# Altium footprint library libreriaPcb.PcbLib: 683 footprints (part 6 of 44)
Each footprint in its own frame and in the unit in brackets; x right, y up, seen from the top. Pads: shape width x height; smd on the part's side, far side on the other; paste and mask are expansions set on the pad; w line width, h text height; cw(c..) or ccw(c..) is an arc to the next point about the centre after c.
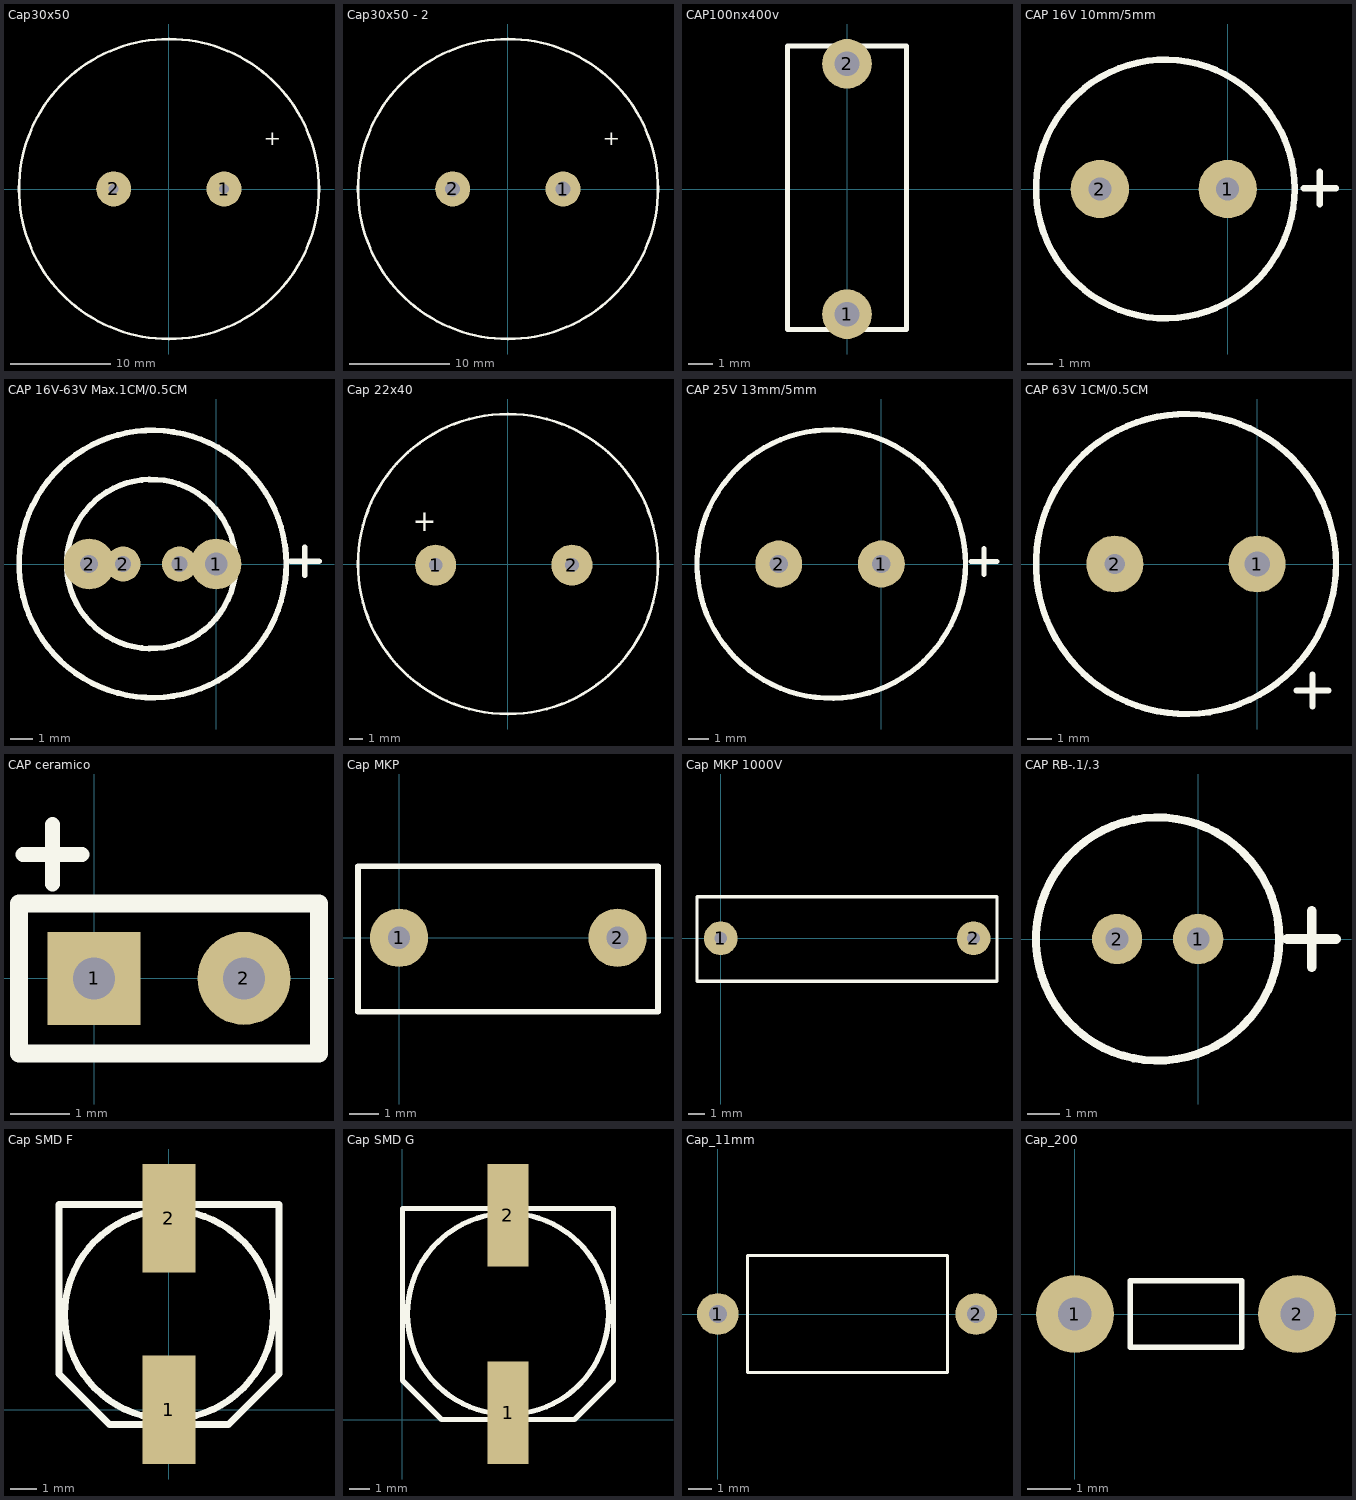
[diagram p5: the footprints below, top view; thin cyan lines are the x and y axes]

## Cap30x50 [mm]
pads (2):
  round 3.5 hole 1: 1(5.51,0) 2(-5.52,0.01)
Top Overlay:
  circle w0.254: c0.006,0 r15
  text "+" at 9.46,4.4 h1.52

## Cap30x50 - 2 [mm]
pads (2):
  round 3.5 hole 1.5: 1(5.51,0) 2(-5.52,0.01)
Top Overlay:
  circle w0.254: c0.006,0 r15
  text "+" at 9.46,4.4 h1.52
3D body: height 50, standoff 0, extent -14.994,-15 15.006,15
3D body: height 50, standoff 0.2, extent -15.113,-1.803 -14.681,1.473
3D body: height 51, standoff 50, extent -13.994,-13.945 14.006,14.047

## CAP100nx400v [mm]
pads (2):
  round 2 hole 1: 1(0,-5.05) 2(0,5.05)
Top Overlay:
  lines w0.2: -2.4,-5.665 -2.4,5.765 2.4,5.765 2.4,-5.665 -2.4,-5.665
3D body: height 1, standoff 0, extent -0.4,4.65 0.4,5.45
3D body: height 1, standoff 0, extent -0.4,-5.45 0.4,-4.65
3D body: height 10.5, standoff 0.5, extent -2.438,-6.152 2.388,6.152

## CAP 16V 10mm/5mm [mil] "B41856A4108M000"
pads (2):
  round 90 hole 35.43: 1(0,0) 2(-196.85,0)
Top Overlay:
  circle w10: c-96.16,0 r199.11
  lines w10: 116.75,1.06 166.75,1.06 ; 141.73,-23.62 141.73,26.38

## CAP 16V-63V Max.1CM/0.5CM [mil] "Dos medidas de Cap"
pads (4):
  round 62 hole 28: 1(-65,0) 2(-165,0)
  round 90 hole 40: 1(0,0)
  round 90 hole 32: 2(-225,0)
Top Overlay:
  circle w10: c-115,0 r150
  circle w10: c-112.5,0 r237
  lines w10: 132.5,5 182.5,5 ; 157.5,-20 157.5,30

## Cap 22x40 [mm]
pads (2):
  round 3 hole 1: 1(-5.283,-0.076) 2(4.717,-0.076)
Top Overlay:
  circle w0.2: c0.025,0 r11
  text "+" at -6.973,2.394 h1.52
3D body: height 40, standoff 0, extent -10.974,-10.999 11.025,10.999
3D body: height 40, standoff 0, extent 10.389,-2.464 11.227,3.188

## CAP 25V 13mm/5mm [mil] "B41856A5108M000"
pads (2):
  round 90 hole 35.43: 1(0,0) 2(-196.85,0)
Top Overlay:
  circle w10: c-96.16,0 r257.58
  lines w10: 171.87,5 221.87,5 ; 196.87,-20 196.87,30

## CAP 63V 1CM/0.5CM [mil]
pads (2):
  round 90 hole 40: 1(0,0)
  round 90 hole 32: 2(-225,0)
Top Overlay:
  circle w10: c-112.5,0 r237
  lines w10: 62.5,-200 112.5,-200 ; 87.5,-225 87.5,-175

## CAP ceramico [mil]
pads (2):
  rect 62x62 hole 28: 1(0,0)
  round 62 hole 28: 2(100,0)
Top Overlay:
  lines w10: -47.24,82.68 -27.56,82.68 ; -27.56,62.99 -27.56,82.68 ; -27.56,102.36 -27.56,82.68 ; -7.87,82.68 -27.56,82.68
  lines w12: -50,-50 -50,50 150,50 150,-50 -50,-50

## Cap MKP [mm] ".022uFx400V"
pads (2):
  round 2 hole 0.762: 1(0,0) 2(7.5,0)
Top Overlay:
  lines w0.2: -1.41,-2.54 -1.41,2.46 8.89,2.46 8.89,-2.54 -1.41,-2.54

## Cap MKP 1000V [mm] ".022uFx1000V"
pads (2):
  round 2 hole 0.762: 1(0,0) 2(15,0)
Top Overlay:
  lines w0.2: -1.41,-2.54 16.39,-2.54 16.39,2.46 -1.41,2.46 -1.41,-2.54

## CAP RB-.1/.3 [mil]
pads (2):
  round 62 hole 28: 1(0,0) 2(-100,0)
Top Overlay:
  circle w10: c-50,0 r150
  lines w12: 110,0 170,0 ; 140,-35 140,35

## Cap SMD F [mm] "Code F 25V, Diametro 8mm"
pads (2):
  rect 2x4.1 smd: 1(0,0) 2(0,7.215)
Top Overlay:
  circle w0.254: c0,3.581 r3.937
  lines w0.254: -4.15,1.346 -2.245,-0.559 2.245,-0.559 4.15,1.346 4.15,7.741 -4.15,7.741 -4.15,1.346

## Cap SMD G [mm] "Code G 25V, Diametro 10mm"
pads (2):
  rect 2x5 smd: 1(5.156,0.335) 2(5.144,9.965)
Top Overlay:
  circle w0.254: c5.15,5.156 r4.902
  lines w0.254: 8.395,0 1.905,0 0,1.905 0,10.3 10.3,10.3 10.3,1.905 ; 8.395,0 10.3,1.905 ; 8.395,0 10.3,1.905

## Cap_11mm [mil]
pads (2):
  round 70 / inner round 0 / far side round 70 hole 30 paste+0: 1(0,0) 2(433.07,0)
Top Overlay:
  lines w5: 50,-98.43 50,98.43 384.84,98.43 384.84,-98.43 50,-98.43

## Cap_200 [mil]
pads (2):
  round 70 / inner round 0 / far side round 70 hole 30 paste+0: 1(0,0) 2(200,0)
Top Overlay:
  lines w5: 50,-30 50,30 150,30 150,-30 50,-30